# Altium footprint library Connectors.PcbLib: 67 footprints (part 4 of 5)
Each footprint in its own frame and in the unit in brackets; x right, y up, seen from the top. Pads: shape width x height; smd on the part's side, far side on the other; paste and mask are expansions set on the pad; w line width, h text height; cw(c..) or ccw(c..) is an arc to the next point about the centre after c.
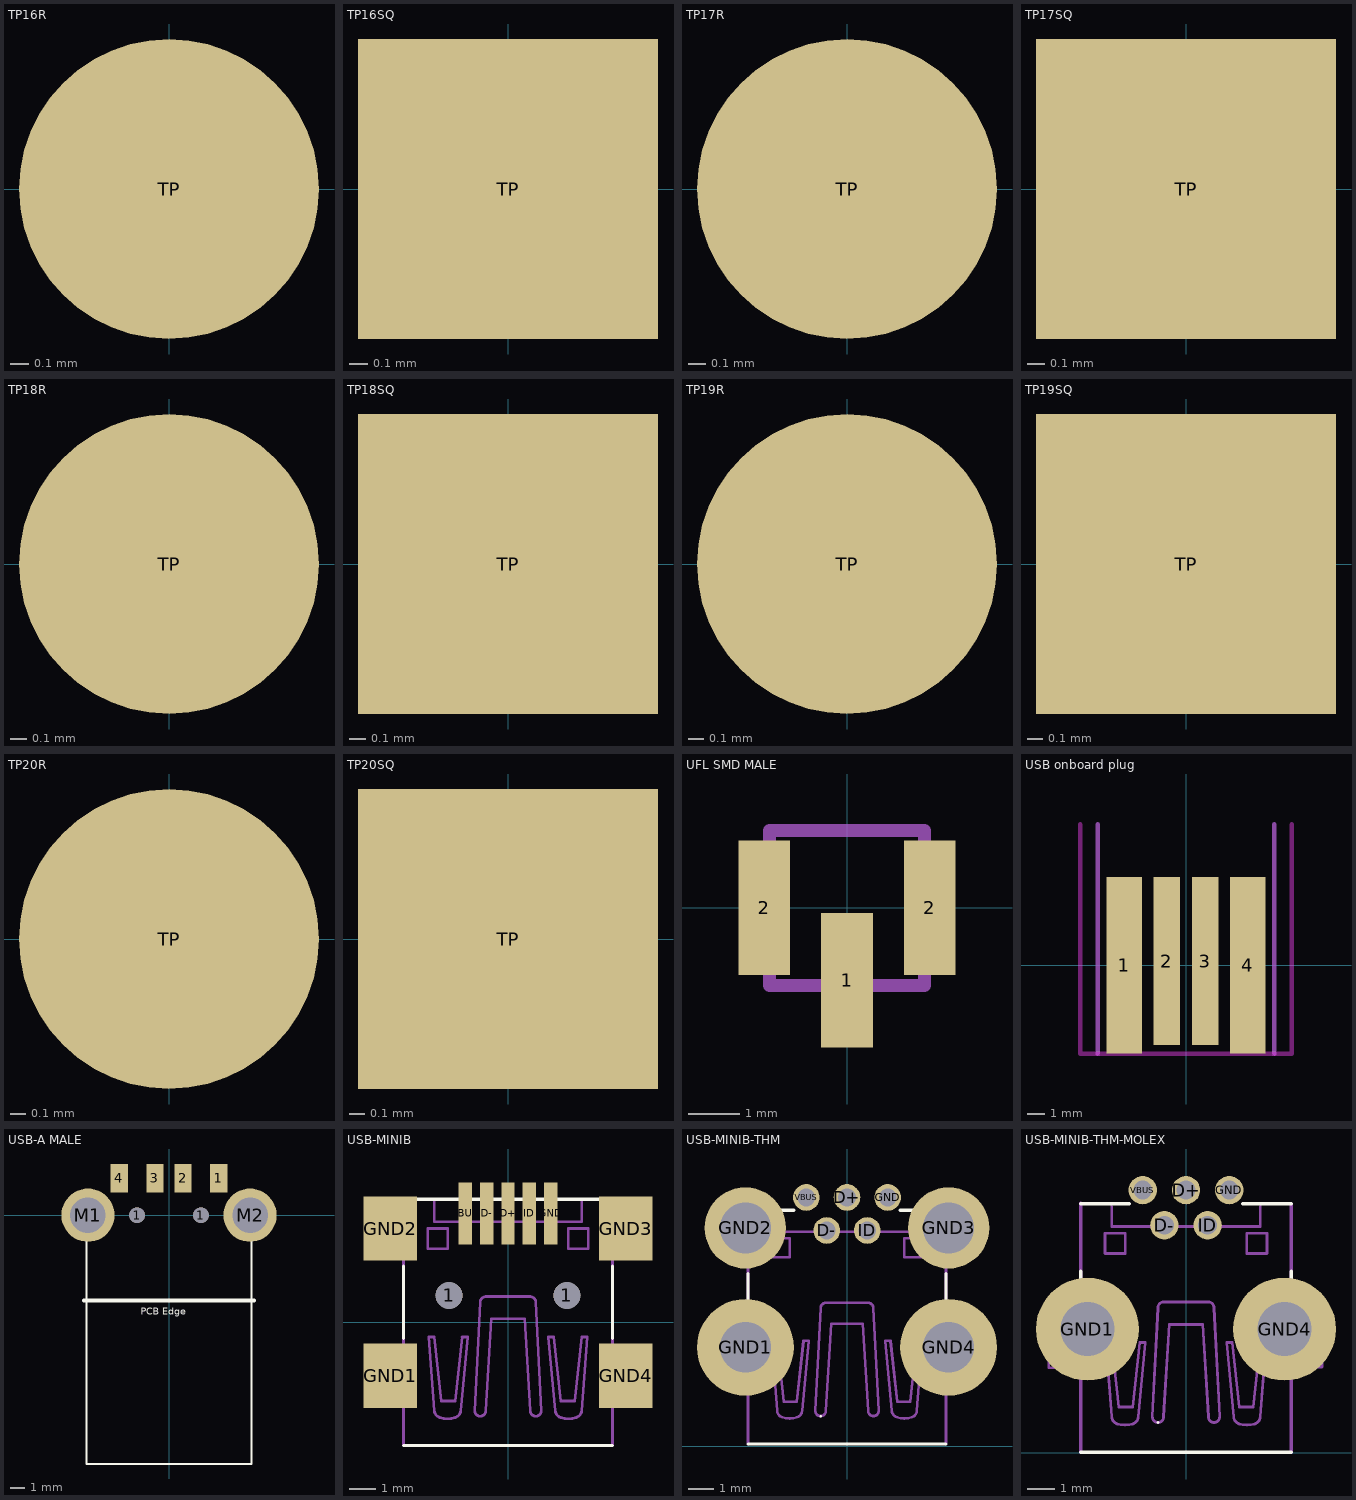
[diagram p3: the footprints below, top view; thin cyan lines are the x and y axes]

## TP16R [mm]
pads (1):
  rrect100% 1.6x1.6 smd paste-0.8: TP(0,0)

## TP16SQ [mm]
pads (1):
  rect 1.6x1.6 smd paste-0.8: TP(0,0)

## TP17R [mm]
pads (1):
  rrect100% 1.7x1.7 smd paste-0.85: TP(0,0)

## TP17SQ [mm]
pads (1):
  rect 1.7x1.7 smd paste-0.85: TP(0,0)

## TP18R [mm]
pads (1):
  rrect100% 1.8x1.8 smd paste-0.9: TP(0,0)

## TP18SQ [mm]
pads (1):
  rect 1.8x1.8 smd paste-0.9: TP(0,0)

## TP19R [mm]
pads (1):
  rrect100% 1.9x1.9 smd paste-0.95: TP(0,0)

## TP19SQ [mm]
pads (1):
  rect 1.9x1.9 smd paste-0.95: TP(0,0)

## TP20R [mm]
pads (1):
  rrect100% 2x2 smd paste-1: TP(0,0)

## TP20SQ [mm]
pads (1):
  rect 2x2 smd paste-1: TP(0,0)

## UFL SMD MALE [mm]
pads (3):
  rect 1x2.6 smd: 1(0,-1.4) 2(-1.6,0) 2(1.6,0)
Mechanical 1:
  lines w0.254: -1.5,-1.5 -1.5,1.5 1.5,1.5 1.5,-1.5 -1.5,-1.5

## USB onboard plug [mm]
pads (4):
  rect 2x10 smd: 1(-3.5,0) 4(3.5,0)
  rect 1.5x9.5 smd: 2(-1.1,0.25) 3(1.1,0.25)
Keep-Out Layer:
  lines w0.254: -6,8 -6,-5 6,-5 6,8
Mechanical 1:
  lines w0.254: -5,-5 -5,8 ; 5,-5 5,8

## USB-A MALE [mm]
pads (8):
  round 1.1 hole 1.1: 1(-2.25,0) 1(2.25,0)
  rect 1.2x2 smd: 1(3.5,2.6) 2(1,2.6) 3(-1,2.6) 4(-3.5,2.6)
  round 3.75 hole 2.5: M1(-5.7,0) M2(5.7,0)
Top Overlay:
  lines w0.127: -5.8,0 -5.8,-17.5 5.8,-17.5 5.8,0
  lines w0.254: -6,-6 0,-6 6,-6
  text "PCB Edge" at -2,-7 h0.5

## USB-MINIB [mm]
pads (11):
  round 1 hole 1: 1(-2.2,1) 1(2.2,1)
  rect 0.5x2.308 smd: D+(0,4.064) D-(-0.8,4.064) GND(1.6,4.064) ID(0.8,4.064) VBUS(-1.6,4.064)
  rect 2x2.4 smd: GND1(-4.4,-2) GND2(-4.4,3.5) GND3(4.4,3.5) GND4(4.4,-2)
Top Overlay:
  lines w0.127: -3.9,-4.6 3.9,-4.6 ; -3.9,-0.6 -3.9,2.1 ; -3.9,4.6 3.9,4.6 ; -3.2,4.6 -2.1,4.6 ; 2.1,4.6 3.2,4.6 ; 3.9,-0.6 3.9,2.1
Mechanical 16:
  lines w0.102: -5.08,-2.67 -5.08,-2.32 ccw(c-5.08,-2.02) -5.08,-1.72 -5.08,-1.32 ; -5.08,2.87 -5.08,3.22 ccw(c-5.08,3.52) -5.08,3.82 -5.08,4.22 ; -5.06,-2.679 -3.91,-2.679 ; -5.06,-1.301 -3.91,-1.301 ; -5.06,2.861 -3.91,2.861 ; -5.06,4.239 -3.91,4.239 ; -2.75,4.5 -2.75,3.75 2.75,3.75 2.75,4.5 ; -1.038,-3.506 cw(c-1.038,-3.299) -1.246,-3.298 -1.038,0.751 cw(c-0.819,0.739) -0.831,0.958 0.83,0.958 cw(c0.818,0.739) 1.038,0.751 1.246,-3.298 cw(c1.038,-3.299) 1.038,-3.506 cw(c1.038,-3.298) 0.83,-3.298 0.623,0.128 -0.623,0.128 -0.831,-3.298 cw(c-1.038,-3.299) -1.038,-3.506 ; 3.88,-2.659 5.03,-2.659 ; 3.88,-1.281 5.03,-1.281 ; 3.88,2.881 5.03,2.881 ; 3.88,4.259 5.03,4.259 ; 5.05,-2.64 5.05,-2.24 cw(c5.05,-1.94) 5.05,-1.64 5.05,-1.29 ; 5.05,2.9 5.05,3.3 cw(c5.05,3.6) 5.05,3.9 5.05,4.25 ; -3,2.75 -2.25,2.75 -2.25,3.5 -3,3.5 -3,2.75 ; -2.959,-0.547 -2.751,-3.298 ccw(c-2.457,-3.276) -2.544,-3.558 ccw(c-2.258,-2.627) -1.973,-3.558 ccw(c-2.059,-3.276) -1.765,-3.298 -1.505,-0.547 -1.713,-0.547 -1.973,-2.935 -2.492,-2.935 -2.751,-0.547 -2.959,-0.547 ; 1.505,-0.547 1.765,-3.298 ccw(c2.059,-3.276) 1.973,-3.558 ccw(c2.258,-2.627) 2.544,-3.558 ccw(c2.457,-3.276) 2.751,-3.298 2.959,-0.547 2.751,-0.547 2.492,-2.935 1.973,-2.935 1.713,-0.547 1.505,-0.547 ; 2.25,2.75 2.25,3.5 3,3.5 3,2.75 2.25,2.75
  lines w0.127: -3.9,-4.6 -3.9,-2.7 ; -3.9,-1.29 -3.9,2.81 ; -3.9,4.25 -3.9,4.6 ; 3.9,-4.6 3.9,-2.7 ; 3.9,-1.24 3.9,2.86 ; 3.9,4.3 3.9,4.6

## USB-MINIB-THM [mm]
pads (9):
  round 1.05 hole 0.7: D+(0,9.8) D-(-0.8,8.5) GND(1.6,9.8) ID(0.8,8.5) VBUS(-1.6,9.8)
  round 3.81 hole 2: GND1(-4,3.9) GND4(4,3.9)
  round 3.2 hole 2: GND2(-4,8.6) GND3(4,8.6)
Top Overlay:
  lines w0.102: -1.038,1.194 -1.038,1.194
  lines w0.127: -3.9,0.1 3.9,0.1 ; -3.9,4.1 -3.9,6.8 ; -3.2,9.3 -2.1,9.3 ; 2.1,9.3 3.2,9.3 ; 3.9,4.7 3.9,6.8
Mechanical 16:
  lines w0.102: -5.08,3.23 -5.08,3.58 ccw(c-5.08,3.88) -5.08,4.18 -5.08,4.58 ; -5.08,7.57 -5.08,7.92 ccw(c-5.08,8.22) -5.08,8.52 -5.08,8.92 ; -5.06,3.221 -3.91,3.221 ; -5.06,4.599 -3.91,4.599 ; -5.06,7.561 -3.91,7.561 ; -5.06,8.939 -3.91,8.939 ; -2.75,9.2 -2.75,8.45 2.75,8.45 2.75,9.2 ; -1.038,1.194 cw(c-1.038,1.401) -1.246,1.402 -1.038,5.451 cw(c-0.819,5.439) -0.831,5.658 0.83,5.658 cw(c0.818,5.439) 1.038,5.451 1.246,1.402 cw(c1.038,1.401) 1.038,1.194 cw(c1.038,1.402) 0.83,1.402 0.623,4.828 -0.623,4.828 -0.831,1.402 cw(c-1.038,1.401) -1.038,1.194 ; 3.88,3.241 5.03,3.241 ; 3.88,4.619 5.03,4.619 ; 3.88,7.581 5.03,7.581 ; 3.88,8.959 5.03,8.959 ; 5.05,3.26 5.05,3.66 cw(c5.05,3.96) 5.05,4.26 5.05,4.61 ; 5.05,7.6 5.05,8 cw(c5.05,8.3) 5.05,8.6 5.05,8.95 ; -3,7.45 -2.25,7.45 -2.25,8.2 -3,8.2 -3,7.45 ; -2.959,4.153 -2.751,1.402 ccw(c-2.457,1.424) -2.544,1.142 ccw(c-2.258,2.073) -1.973,1.142 ccw(c-2.059,1.424) -1.765,1.402 -1.505,4.153 -1.713,4.153 -1.973,1.765 -2.492,1.765 -2.751,4.153 -2.959,4.153 ; 1.505,4.153 1.765,1.402 ccw(c2.059,1.424) 1.973,1.142 ccw(c2.258,2.073) 2.544,1.142 ccw(c2.457,1.424) 2.751,1.402 2.959,4.153 2.751,4.153 2.492,1.765 1.973,1.765 1.713,4.153 1.505,4.153 ; 2.25,7.45 2.25,8.2 3,8.2 3,7.45 2.25,7.45
  lines w0.127: -3.9,0.1 -3.9,3.2 ; -3.9,4.61 -3.9,7.51 ; -3.9,8.95 -3.9,9.3 ; 3.9,0.1 3.9,3.2 ; 3.9,4.66 3.9,7.56 ; 3.9,9 3.9,9.3

## USB-MINIB-THM-MOLEX [mil]
pads (7):
  round 41.34 hole 27.56: D+(0,382.68) D-(-31.5,331.5) GND(62.99,382.68) ID(31.5,331.5) VBUS(-62.99,382.68)
  round 150 hole 78.74: GND1(-143.7,179.92) GND4(143.7,179.92)
Top Overlay:
  lines w4: -40.88,43.85 -40.87,43.85
  lines w5: -153.54,0.79 153.54,0.79 ; -153.54,158.27 -153.54,264.57 ; -153.54,362.99 -82.68,362.99 ; 82.68,362.99 153.54,362.99 ; 153.54,181.89 153.54,264.57
Mechanical 16:
  lines w4: -200,124.02 -200,137.8 ccw(c-200,149.61) -200,161.42 -200,177.17 ; -199.21,123.65 -153.94,123.65 ; -199.21,177.92 -153.94,177.92 ; -108.27,359.06 -108.27,329.53 108.27,329.53 108.27,359.06 ; -40.88,43.85 cw(c-40.88,52.02) -49.05,52.03 -40.88,211.45 cw(c-32.23,210.97) -32.7,219.62 32.69,219.62 cw(c32.22,210.97) 40.87,211.45 49.04,52.03 cw(c40.87,52.02) 40.87,43.85 cw(c40.87,52.03) 32.69,52.03 24.52,186.92 -24.54,186.92 -32.7,52.03 cw(c-40.88,52.02) -40.87,43.85 ; 152.76,124.44 198.03,124.44 ; 152.76,178.72 198.03,178.72 ; 198.82,125.2 198.82,140.94 cw(c198.82,152.75) 198.82,164.57 198.82,178.35 ; -118.11,290.16 -118.11,319.69 -88.58,319.69 -88.58,290.16 -118.11,290.16 ; -116.5,160.35 -108.32,160.35 -98.11,66.33 -77.67,66.33 -67.45,160.35 -59.27,160.35 -69.49,52.03 cw(c-81.07,52.91) -77.67,41.81 cw(c-88.91,78.46) -100.15,41.81 cw(c-96.75,52.91) -108.32,52.03 -116.5,160.35 ; 59.26,160.35 67.44,160.35 77.66,66.33 98.1,66.33 108.32,160.35 116.49,160.35 108.32,52.03 cw(c96.74,52.91) 100.14,41.81 cw(c88.9,78.46) 77.66,41.81 cw(c81.06,52.91) 69.48,52.03 59.26,160.35 ; 88.58,290.16 118.11,290.16 118.11,319.69 88.58,319.69 88.58,290.16
  lines w5: -153.54,0.79 -153.54,122.83 ; -153.54,178.35 -153.54,363.39 ; 153.54,0.79 153.54,122.83 ; 153.54,180.32 153.54,361.42